# EAGLE library part AD8244 (library Bauteile)
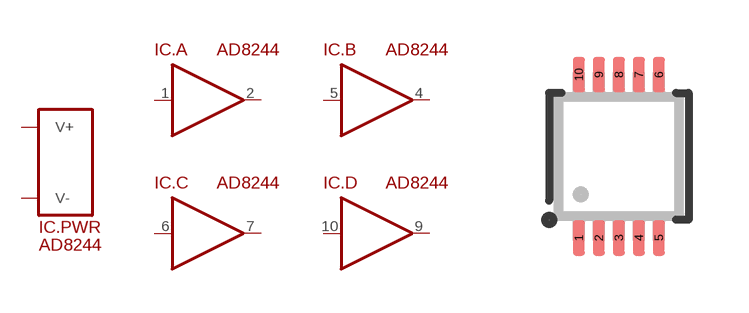
[diagram p178: symbol with the pads of MSOP10; footprint MSOP10]

Designator prefix IC; gates .PWR=SUPPLY_V+/V- .A=UNITY_GAIN_OP .B=UNITY_GAIN_OP .C=UNITY_GAIN_OP .D=UNITY_GAIN_OP

## AD8244  [MSOP10]
1  .A:IN
2  .A:OUT
3  .PWR:V+
4  .B:OUT
5  .B:IN
6  .C:IN
7  .C:OUT
8  .PWR:V-
9  .D:OUT
10  .D:IN

## Footprint MSOP10 (pad centres in mm)
smd 0.305 x 0.889: 1 -1,-2.045; 2 -0.5,-2.045; 3 0,-2.045; 4 0.5,-2.045; 5 1,-2.045; 6 1,2.045; 7 0.5,2.045; 8 0,2.045; 9 -0.5,2.045; 10 -1,2.045